# Altium schematic symbol library IC_USB.SchLib: 2 symbols
Pins are listed as number, name and electrical type; pins without a type are passive.

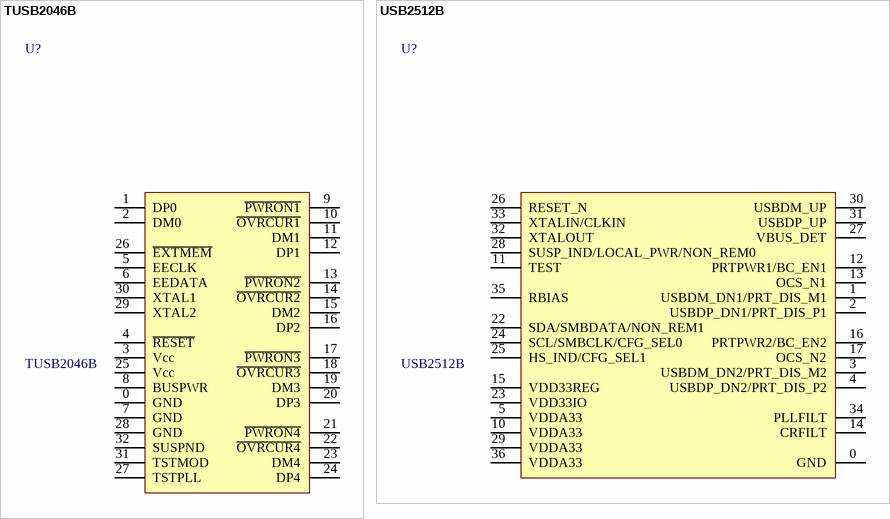
[diagram p0: symbols TUSB2046B to USB2512B]

## TUSB2046B
designator U?
4-port USB 1.1 hub
footprint QFN-32-0.5-5x5_TP
pins: 0 GND, 1 DP0, 2 DM0, 3 Vcc, 4 ~{RESET}, 5 EECLK, 6 EEDATA, 7 GND, 8 BUSPWR, 9 ~{PWRON1}, 10 ~{OVRCUR1}, 11 DM1, 12 DP1, 13 ~{PWRON2}, 14 ~{OVRCUR2}, 15 DM2, 16 DP2, 17 ~{PWRON3}, 18 ~{OVRCUR3}, 19 DM3, 20 DP3, 21 ~{PWRON4}, 22 ~{OVRCUR4}, 23 DM4, 24 DP4, 25 Vcc, 26 ~{EXTMEM}, 27 TSTPLL, 28 GND, 29 XTAL2, 30 XTAL1, 31 TSTMOD, 32 SUSPND

## USB2512B
designator U?
USB 2.0 Hi-Speed Hub Controller; HelpURL: http://ww1.microchip.com/downloads/en/DeviceDoc/00001692C.pdf
footprint QFN-36-0.5-6x6_TP (QFN, 36-Leads, Body 6,00x6,00mm, Pitch 0,50mm, Thermal Pad 3,70x3,70mm, IPC Medium Density)
footprint QFN-36-0.5-6x6_TP_5class (QFN, 36-Leads, Body 6,00x6,00mm, Pitch 0,50mm, Thermal Pad 3,70x3,70mm, IPC Medium Density)
pins: 0 GND, 1 USBDM_DN1/PRT_DIS_M1, 2 USBDP_DN1/PRT_DIS_P1, 3 USBDM_DN2/PRT_DIS_M2, 4 USBDP_DN2/PRT_DIS_P2, 5 VDDA33, 10 VDDA33, 11 TEST, 12 PRTPWR1/BC_EN1, 13 OCS_N1, 14 CRFILT, 15 VDD33REG, 16 PRTPWR2/BC_EN2, 17 OCS_N2, 22 SDA/SMBDATA/NON_REM1, 23 VDD33IO, 24 SCL/SMBCLK/CFG_SEL0, 25 HS_IND/CFG_SEL1, 26 RESET_N, 27 VBUS_DET, 28 SUSP_IND/LOCAL_PWR/NON_REM0, 29 VDDA33, 30 USBDM_UP, 31 USBDP_UP, 32 XTALOUT, 33 XTALIN/CLKIN, 34 PLLFILT, 35 RBIAS, 36 VDDA33